# Altium footprint library ATM134PBM02.PcbLib: 1 footprints
Each footprint in its own frame and in the unit in brackets; x right, y up, seen from the top. Pads: shape width x height; smd on the part's side, far side on the other; paste and mask are expansions set on the pad; w line width, h text height; cw(c..) or ccw(c..) is an arc to the next point about the centre after c.
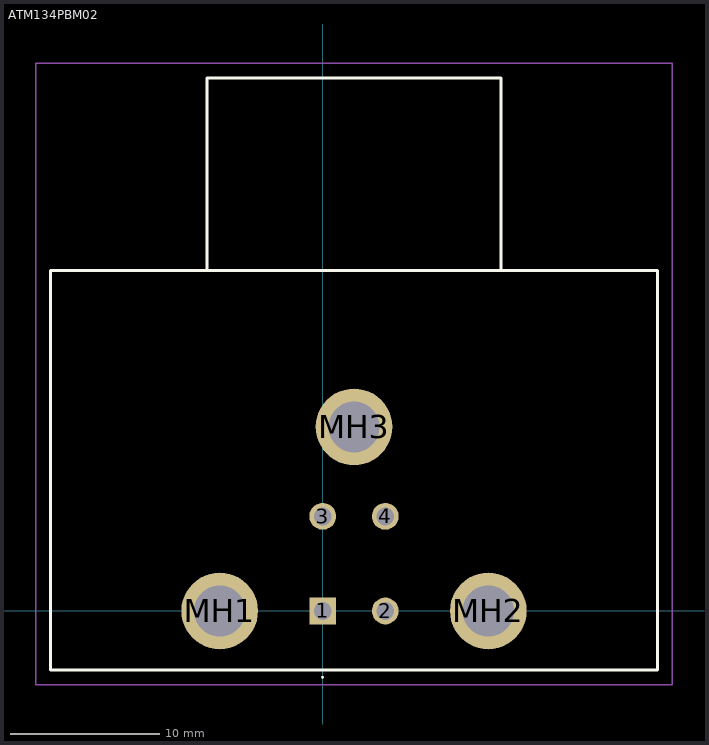
[diagram p0: the footprint, top view; thin cyan lines are the x and y axes]

## ATM134PBM02 [mm]
pads (7):
  rect 1.8x1.8 hole 1.2: 1(0,0)
  round 1.8 hole 1.2: 2(4.2,0) 3(0,6.35) 4(4.2,6.35)
  round 5.145 hole 3.43: MH1(-6.91,0) MH2(11.11,0) MH3(2.1,12.35)
Top Overlay:
  lines w0.1: 0,-4.5 cw(c0,-4.45) 0,-4.4 ; 0,-4.5 0,-4.5 ; 0,-4.5 ccw(c0,-4.45) 0,-4.4 ; 0,-4.4 0,-4.4
  lines w0.2: -7.75,22.85 -7.75,35.75 11.95,35.75 11.95,22.85 ; -18.25,-3.95 22.45,-3.95 22.45,22.85 -18.25,22.85 -18.25,-3.95
Mechanical 15:
  lines w0.1: -7.75,22.85 -7.75,35.75 11.95,35.75 11.95,22.85 ; -18.25,-3.95 22.45,-3.95 22.45,22.85 -18.25,22.85 -18.25,-3.95
Mechanical 20:
  lines w0.1: -19.25,-4.95 23.45,-4.95 23.45,36.75 -19.25,36.75 -19.25,-4.95